# EAGLE library part SI7021 (library GLEE_packages)
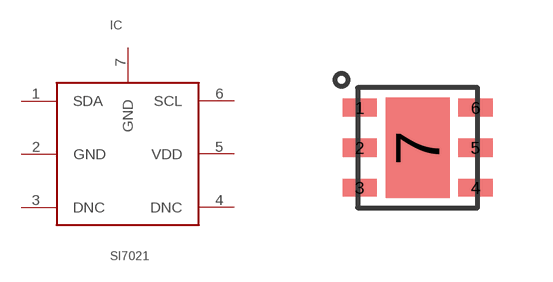
[diagram p0: symbol with the pads of SI7021; footprint SI7021]

Designator prefix IC

## SI7021  [SI7021]
1  SDA
2  GND
3  DNC
4  DNC
5  VDD
6  SCL
7  GND

## Footprint SI7021 (pad centres in mm)
smd 0.85 x 0.45: 1 -1.45,1; 2 -1.45,0; 3 -1.45,-1; 4 1.45,-1; 5 1.45,0; 6 1.45,1
smd 1.6 x 2.5: 7 0,0